# EAGLE library part CY8C4245PVI (library CYP)
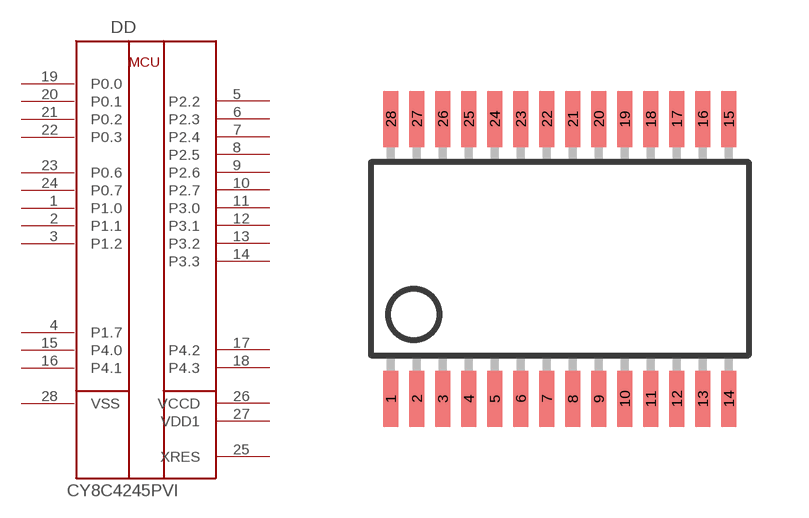
[diagram p1: symbol with the pads of SSOP-28; footprint SSOP-28]

Designator prefix DD

## CY8C4245PVI  [SSOP-28]
1  P1.0
2  P1.1
3  P1.2
4  P1.7
5  P2.2
6  P2.3
7  P2.4
8  P2.5
9  P2.6
10  P2.7
11  P3.0
12  P3.1
13  P3.2
14  P3.3
15  P4.0
16  P4.1
17  P4.2
18  P4.3
19  P0.0
20  P0.1
21  P0.2
22  P0.3
23  P0.6
24  P0.7
25  XRES
26  VCCD
27  VDD1
28  VSS

## Footprint SSOP-28 (pad centres in mm)
smd 0.38 x 1.4: 1 -4.225,-3.5; 2 -3.575,-3.5; 3 -2.925,-3.5; 4 -2.275,-3.5; 5 -1.625,-3.5; 6 -0.975,-3.5; 7 -0.325,-3.5; 8 0.325,-3.5; 9 0.975,-3.5; 10 1.625,-3.5; 11 2.275,-3.5; 12 2.925,-3.5; 13 3.575,-3.5; 14 4.225,-3.5; 15 4.225,3.5; 16 3.575,3.5; 17 2.925,3.5; 18 2.275,3.5; 19 1.625,3.5; 20 0.975,3.5; 21 0.325,3.5; 22 -0.325,3.5; 23 -0.975,3.5; 24 -1.625,3.5; 25 -2.275,3.5; 26 -2.925,3.5; 27 -3.575,3.5; 28 -4.225,3.5